# Altium footprint library SnapEDApcb.PcbLib: 1 footprints
Each footprint in its own frame and in the unit in brackets; x right, y up, seen from the top. Pads: shape width x height; smd on the part's side, far side on the other; paste and mask are expansions set on the pad; w line width, h text height; cw(c..) or ccw(c..) is an arc to the next point about the centre after c.
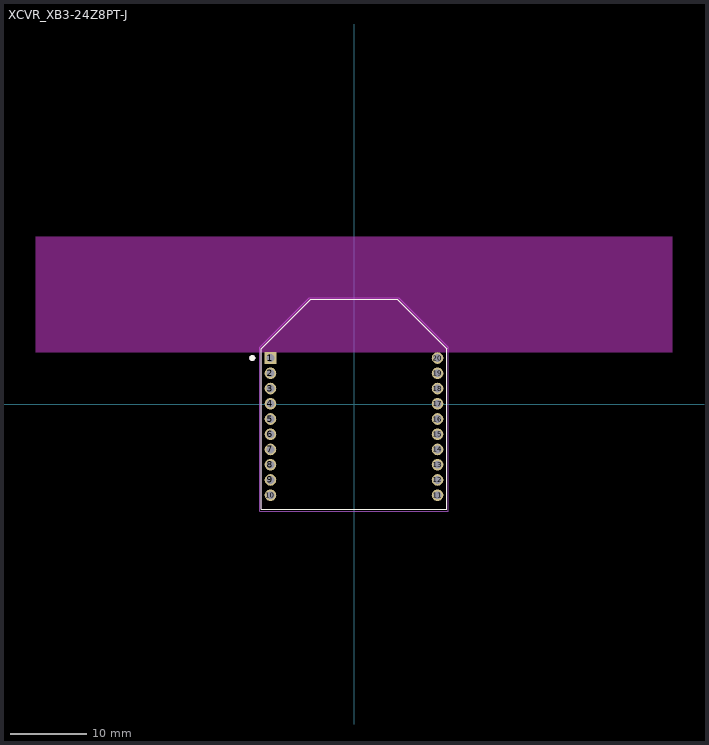
[diagram p0: the footprint, top view; thin cyan lines are the x and y axes]

## XCVR_XB3-24Z8PT-J [mm]
pads (20):
  rect 1.53x1.53 hole 1.02: 1(-10.998,6.096)
  round 1.53 hole 1.02: 2(-10.998,4.089) 3(-10.998,2.083) 4(-10.998,0.076) 5(-10.998,-1.93) 6(-10.998,-3.937) 7(-10.998,-5.944) 8(-10.998,-7.95) 9(-10.998,-9.957) 10(-10.998,-11.963) 11(10.998,-11.963) 12(10.998,-9.957) 13(10.998,-7.95) 14(10.998,-5.944) 15(10.998,-3.937) 16(10.998,-1.93) 17(10.998,0.076) 18(10.998,2.083) 19(10.998,4.089) 20(10.998,6.096)
Top Overlay:
  circle w0.4: c-13.4,6.1 r0.2
  lines w0.127: -12.192,-13.818 12.192,-13.818 12.192,7.29 5.664,13.818 -5.664,13.818 -12.192,7.29 -12.192,-13.818
Keep-Out Layer:
  region: 41.9,6.86 -41.9,6.86 -41.9,22.06 41.9,22.06
  region: 41.9,6.86 -41.9,6.86 -41.9,22.06 41.9,22.06
  region: 41.9,6.86 -41.9,6.86 -41.9,22.06 41.9,22.06
Mechanical 13:
  circle w0.4: c-13.4,6.1 r0.2
  lines w0.127: -12.192,-13.818 -12.192,7.29 -5.664,13.818 5.664,13.818 12.192,7.29 12.192,-13.818 -12.192,-13.818
Mechanical 15:
  lines w0.05: -12.442,-14.068 -12.442,7.544 -5.918,14.068 5.918,14.068 12.442,7.544 12.442,-14.068 -12.442,-14.068